# Altium footprint library SDCardSlot.PcbLib: 3 footprints
Each footprint in its own frame and in the unit in brackets; x right, y up, seen from the top. Pads: shape width x height; smd on the part's side, far side on the other; paste and mask are expansions set on the pad; w line width, h text height; cw(c..) or ccw(c..) is an arc to the next point about the centre after c.
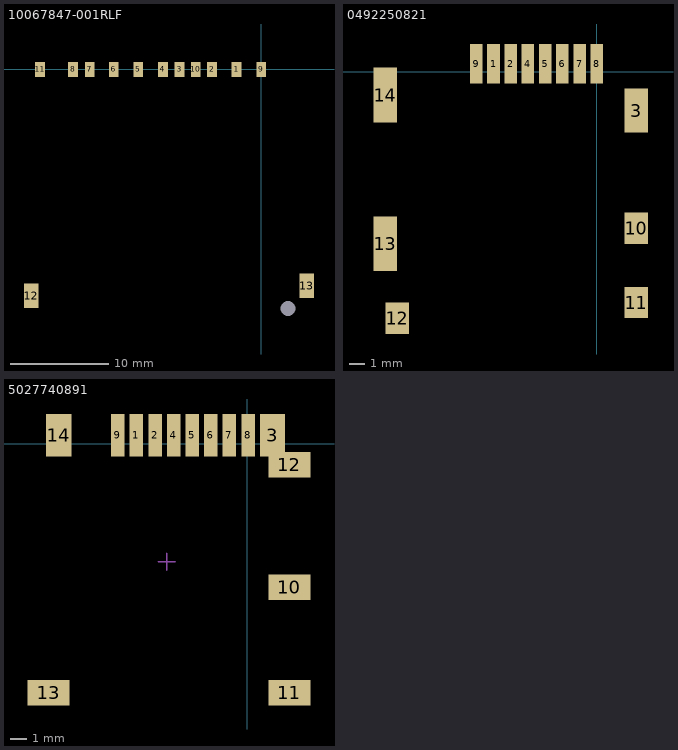
[diagram p0: the footprints below, top view; thin cyan lines are the x and y axes]

## 10067847-001RLF [mm]
height 2.8
pads (14):
  rect 1x1.5 smd: 1(-2.5,0) 2(-5,0) 3(-8.3,0) 4(-10,0) 5(-12.5,0) 6(-15,0) 7(-17.425,0) 8(-19.125,0) 9(0,0) 10(-6.65,0) 11(-22.475,0)
  rect 1.5x2.5 smd: 12(-23.375,-23) 13(4.625,-22)
  round 0 hole 1.5: 15(2.725,-24.3)
3D body "10067847-001RLF.stp": height 2.8, standoff -0.8, extent -23.2,-30 5.25,0.25

## 0492250821 [mm] "Molex MicroSD Card Socket"
height 2
pads (14):
  rect 0.8x2.5 smd: 1(-6.6,0.5) 2(-5.5,0.5) 4(-4.4,0.5) 5(-3.3,0.5) 6(-2.2,0.5) 7(-1.1,0.5) 8(0,0.5) 9(-7.7,0.5)
  rect 1.5x2.8 smd: 3(2.5,-2.5)
  rect 1.5x2 smd: 10(2.5,-10) 11(2.5,-14.75) 12(-12.75,-15.75)
  rect 1.5x3.5 smd: 13(-13.5,-11) 14(-13.5,-1.5)
3D body "492250821.stp": height 2, standoff 0.02, extent -13.55,-16.45 2.55,0.6

## 5027740891 [mm] "Molex MicroSD Card Socket"
height 2
pads (14):
  rect 0.8x2.5 smd: 1(-6.55,0.5) 2(-5.45,0.5) 4(-4.35,0.5) 5(-3.25,0.5) 6(-2.15,0.5) 7(-1.05,0.5) 8(0.05,0.5) 9(-7.65,0.5)
  rect 1.5x2.5 smd: 3(1.5,0.5) 14(-11.15,0.5)
  rect 2.5x1.5 smd: 10(2.5,-8.5) 11(2.5,-14.75) 12(2.5,-1.25) 13(-11.75,-14.75)
Mechanical 15:
  lines w0.1: -5.25,-7 -4.25,-7 ; -4.75,-7.5 -4.75,-6.5
3D body "5027740891.stp": height 1.81, standoff 0.01, extent -11.845,-15.035 2.455,0.965